# EAGLE library part MINI_DIN_9 (library mini_din)
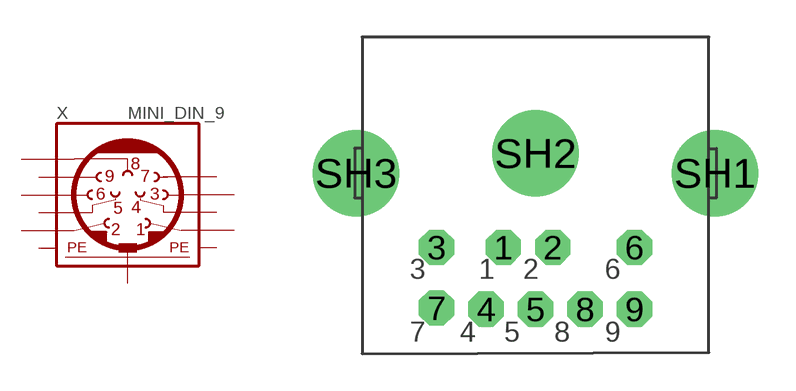
[diagram p6: symbol with the pads of M_DIN9; footprint M_DIN9]

Designator prefix X

## MINI_DIN_9  [M_DIN9]
1  1  pas
2  2  pas
3  3  pas
4  4  pas
5  5  pas
6  6  pas
7  7  pas
8  8  pas
9  9  pas
SH1  PE1  pwr
SH2  PE2  pwr
SH3  PE3  pwr

## Footprint M_DIN9 (pad centres in mm)
drill 0.9 pad 1.422 octagon: 1 -1.3,-3.8; 2 0.7,-3.8; 3 -4,-3.8; 4 -2,-6.3; 5 0,-6.3; 6 4,-3.8; 7 -4,-6.25; 8 2,-6.3; 9 4,-6.3
drill 2.3 pad 3.5: SH1 7.25,-0.8; SH2 0,0; SH3 -7.25,-0.8